# Altium footprint library Footprint Library.PcbLib: 55 footprints (part 4 of 4)
Each footprint in its own frame and in the unit in brackets; x right, y up, seen from the top. Pads: shape width x height; smd on the part's side, far side on the other; paste and mask are expansions set on the pad; w line width, h text height; cw(c..) or ccw(c..) is an arc to the next point about the centre after c.
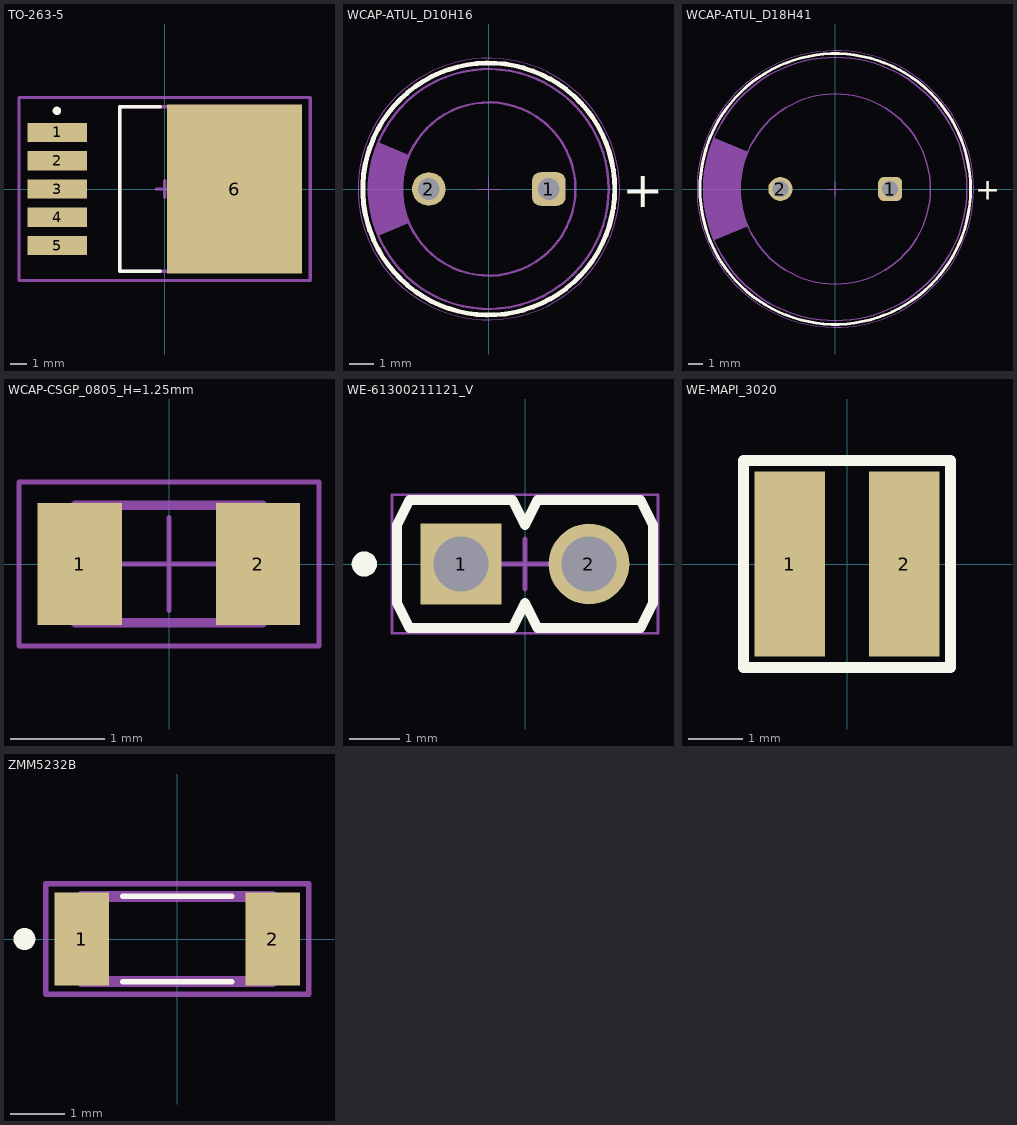
[diagram p3: the footprints below, top view; thin cyan lines are the x and y axes]

## TO-263-5 [mm] "D2-PAK, 6-Pads, Body 8,9x9,9mm (max), IPC Low Density"
height 4.65
pads (6):
  rect 3.6x1.15 smd: 1(-6.45,3.4) 2(-6.45,1.7) 3(-6.45,0) 4(-6.45,-1.7) 5(-6.45,-3.4)
  rect 8.1x10.15 smd paste-5: 6(4.2,0)
Top Overlay:
  circle w0.25: c-6.475,4.699 r0.125
  lines w0.2: -0.25,-4.95 -2.7,-4.95 -2.7,4.95 -0.25,4.95
Top Paste:
  rectangle: 0.254,-3.226 2.159,-1.956
  rectangle: 6.223,-3.226 8.128,-1.956
  rectangle: 2.667,-3.226 5.715,-1.956
  rectangle: 0.254,-4.953 2.159,-3.683
  rectangle: 6.223,-4.953 8.128,-3.683
  rectangle: 2.667,-4.953 5.715,-3.683
  rectangle: 0.254,-1.499 2.159,-0.229
  rectangle: 6.223,-1.499 8.128,-0.229
  rectangle: 2.667,-1.499 5.715,-0.229
  rectangle: 0.254,0.229 2.159,1.499
  rectangle: 6.223,0.229 8.128,1.499
  rectangle: 2.667,0.229 5.715,1.499
  rectangle: 0.254,1.956 2.159,3.226
  rectangle: 6.223,1.956 8.128,3.226
  rectangle: 2.667,1.956 5.715,3.226
  rectangle: 2.667,3.683 5.715,4.953
  rectangle: 6.223,3.683 8.128,4.953
  rectangle: 0.254,3.683 2.159,4.953
Mechanical 13:
  lines w0.2: -2.7,-4.95 -2.7,4.95 6.19,4.95 6.19,-4.95 -2.7,-4.95
  text ".Designator" at -2.032,2.286 h1.5
Mechanical 15:
  lines w0.2: -0.5,0 0.5,0 ; 0,-0.5 0,0.5 ; -8.75,-5.5 -8.75,5.5 8.75,5.5 8.75,-5.5 -8.75,-5.5
3D body "TO-263 5Ld.step": height 4.57, standoff -0.01, extent -7.308,-5.08 7.333,5.08

## WCAP-ATUL_D10H16 [mm] "Aluminum Electrolytic Capacitors, 10x16mm"
height 16
pads (2):
  rrect50% 1.4x1.4 hole 0.9: 1(2.5,0)
  round 1.4 hole 0.9: 2(-2.5,0)
Top Overlay:
  circle w0.2: c0,0 r5.25
  text "+" at 5.55,-0.75 h1.5
Mechanical 11:
  circle w0.1: c0,0 r3.61
  circle w0.1: c0,0 r5
  region: -4.607,-1.944 -3.323,-1.41 -3.324,-1.409 -3.39,-1.24 -3.497,-0.895 -3.569,-0.541 -3.605,-0.181 -3.605,0.181 -3.569,0.541 -3.497,0.895 -3.39,1.24 -3.324,1.409 -3.323,1.41 -4.607,1.944 -4.704,1.714 -4.851,1.237 -4.95,0.747 -5,0.25 -5,-0.25 -4.95,-0.747 -4.851,-1.237 -4.704,-1.714
  text ".Designator" at -2.5,-0.75 h1.5
Mechanical 15:
  circle w0.05: c0,0 r5.45
  lines w0.05: -0.5,0 0.5,0 ; 0,-0.5 0,0.5
3D body "10x16x5x0.6.stp": height 16.31, standoff -19.91, extent -4.99,-5 5,4.999

## WCAP-ATUL_D18H41 [mm] "Aluminum Electrolytic Capacitors, 18x41mm"
height 41
pads (2):
  rrect50% 1.65x1.65 hole 1.1: 1(3.75,0)
  round 1.65 hole 1.1: 2(-3.75,0)
Top Overlay:
  circle w0.2: c0,0 r9.25
  text "+" at 9.55,-0.75 h1.5
Mechanical 11:
  circle w0.1: c0,0 r9
  circle w0.1: c0,0 r6.5
  region: -8.291,-3.501 -5.985,-2.536 -5.986,-2.533 -6.105,-2.23 -6.298,-1.609 -6.427,-0.972 -6.492,-0.325 -6.492,0.325 -6.427,0.972 -6.298,1.609 -6.105,2.23 -5.986,2.533 -5.985,2.536 -8.291,3.501 -8.466,3.086 -8.732,2.227 -8.91,1.345 -9,0.45 -9,-0.45 -8.91,-1.345 -8.732,-2.227 -8.466,-3.086
  text ".Designator" at -2.5,-0.75 h1.5
Mechanical 15:
  circle w0.05: c0,0 r9.45
  lines w0.05: -0.5,0 0.5,0 ; 0,-0.5 0,0.5
3D body "18x41x7.5x0.8.stp": height 41.31, standoff -19.91, extent -8.99,-9 9,8.999

## WCAP-CSGP_0805_H=1.25mm [mm] "Ceramic Capacitors, body 2x1.25mm"
height 1.35
pads (2):
  rect 0.9x1.3 smd: 1(-0.95,0) 2(0.95,0)
Mechanical 11:
  lines w0.1: -1,-0.625 1,-0.625 1,0.625 -1,0.625 -1,-0.625
  text ".Designator" at -0.81,-0.35 h0.7
Mechanical 13:
  lines w0.1: -1,-0.625 -1,0.625 1,0.625 1,-0.625 -1,-0.625
Mechanical 15:
  lines w0.05: -0.5,0 0.5,0 ; 0,-0.5 0,0.5 ; -1.6,-0.875 -1.6,0.875 1.6,0.875 1.6,-0.875 -1.6,-0.875
3D body "2x1.25x1.25x0.5.stp": height 1.25, standoff 0, extent -1,-0.625 1,0.625

## WE-61300211121_V [mm] "Header, 2-Leads, Body 5.08x2.54mm, Pitch 2.54mm"
height 8.54
pads (2):
  rect 1.6x1.6 hole 1.1: 1(-1.27,0)
  round 1.6 hole 1.1: 2(1.27,0)
Top Overlay:
  circle w0.25: c-3.19,0 r0.125
  lines w0.2: -2.54,-0.77 -2.29,-1.27 -0.25,-1.27 0,-0.77 0.25,-1.27 2.29,-1.27 2.54,-0.77 2.54,0.77 2.29,1.27 0.25,1.27 0,0.77 -0.25,1.27 -2.29,1.27 -2.54,0.77 -2.54,-0.77
Mechanical 13:
  lines w0.1: -2.54,-0.77 -2.54,0.77 -2.29,1.27 -0.25,1.27 0,0.77 0.25,1.27 2.29,1.27 2.54,0.77 2.54,-0.77 2.29,-1.27 0.25,-1.27 0,-0.77 -0.25,-1.27 -2.29,-1.27 -2.54,-0.77
Mechanical 15:
  lines w0.05: -2.64,-1.37 -2.64,1.37 2.64,1.37 2.64,-1.37 -2.64,-1.37
  lines w0.1: -0.5,0 0.5,0 ; 0,-0.5 0,0.5
3D body "STEP-61300211121-rev1.stp": height 8.54, standoff -3, extent -2.54,-1.27 2.54,1.27

## WE-MAPI_3020 [mm]
pads (2):
  rect 1.3x3.4 smd: 1(-1.05,0) 2(1.05,0)
Top Overlay:
  lines w0.2: -1.9,-1.9 1.9,-1.9 1.9,1.9 -1.9,1.9 -1.9,-1.9

## ZMM5232B [mm]
pads (2):
  rect 1x1.7 smd: 1(-1.75,0) 2(1.75,0)
Top Overlay:
  lines w0.1: -1,-0.78 1,-0.78 ; -1,0.78 1,0.78
  lines w0.2: -2.8,-0.1 cw(c-2.8,0) -2.8,0.1 cw(c-2.8,0) -2.8,-0.1
Mechanical 13:
  lines w0.2: -1.75,-0.78 1.75,-0.78 1.75,0.78 -1.75,0.78 -1.75,-0.78
Mechanical 15:
  lines w0.1: -2.413,-1.016 2.413,-1.016 2.413,1.016 -2.413,1.016 -2.413,-1.016